# Altium footprint library PCB_Marking_Lib.PcbLib: 70 footprints (part 3 of 5)
Each footprint in its own frame and in the unit in brackets; x right, y up, seen from the top. Pads: shape width x height; smd on the part's side, far side on the other; paste and mask are expansions set on the pad; w line width, h text height; cw(c..) or ccw(c..) is an arc to the next point about the centre after c.
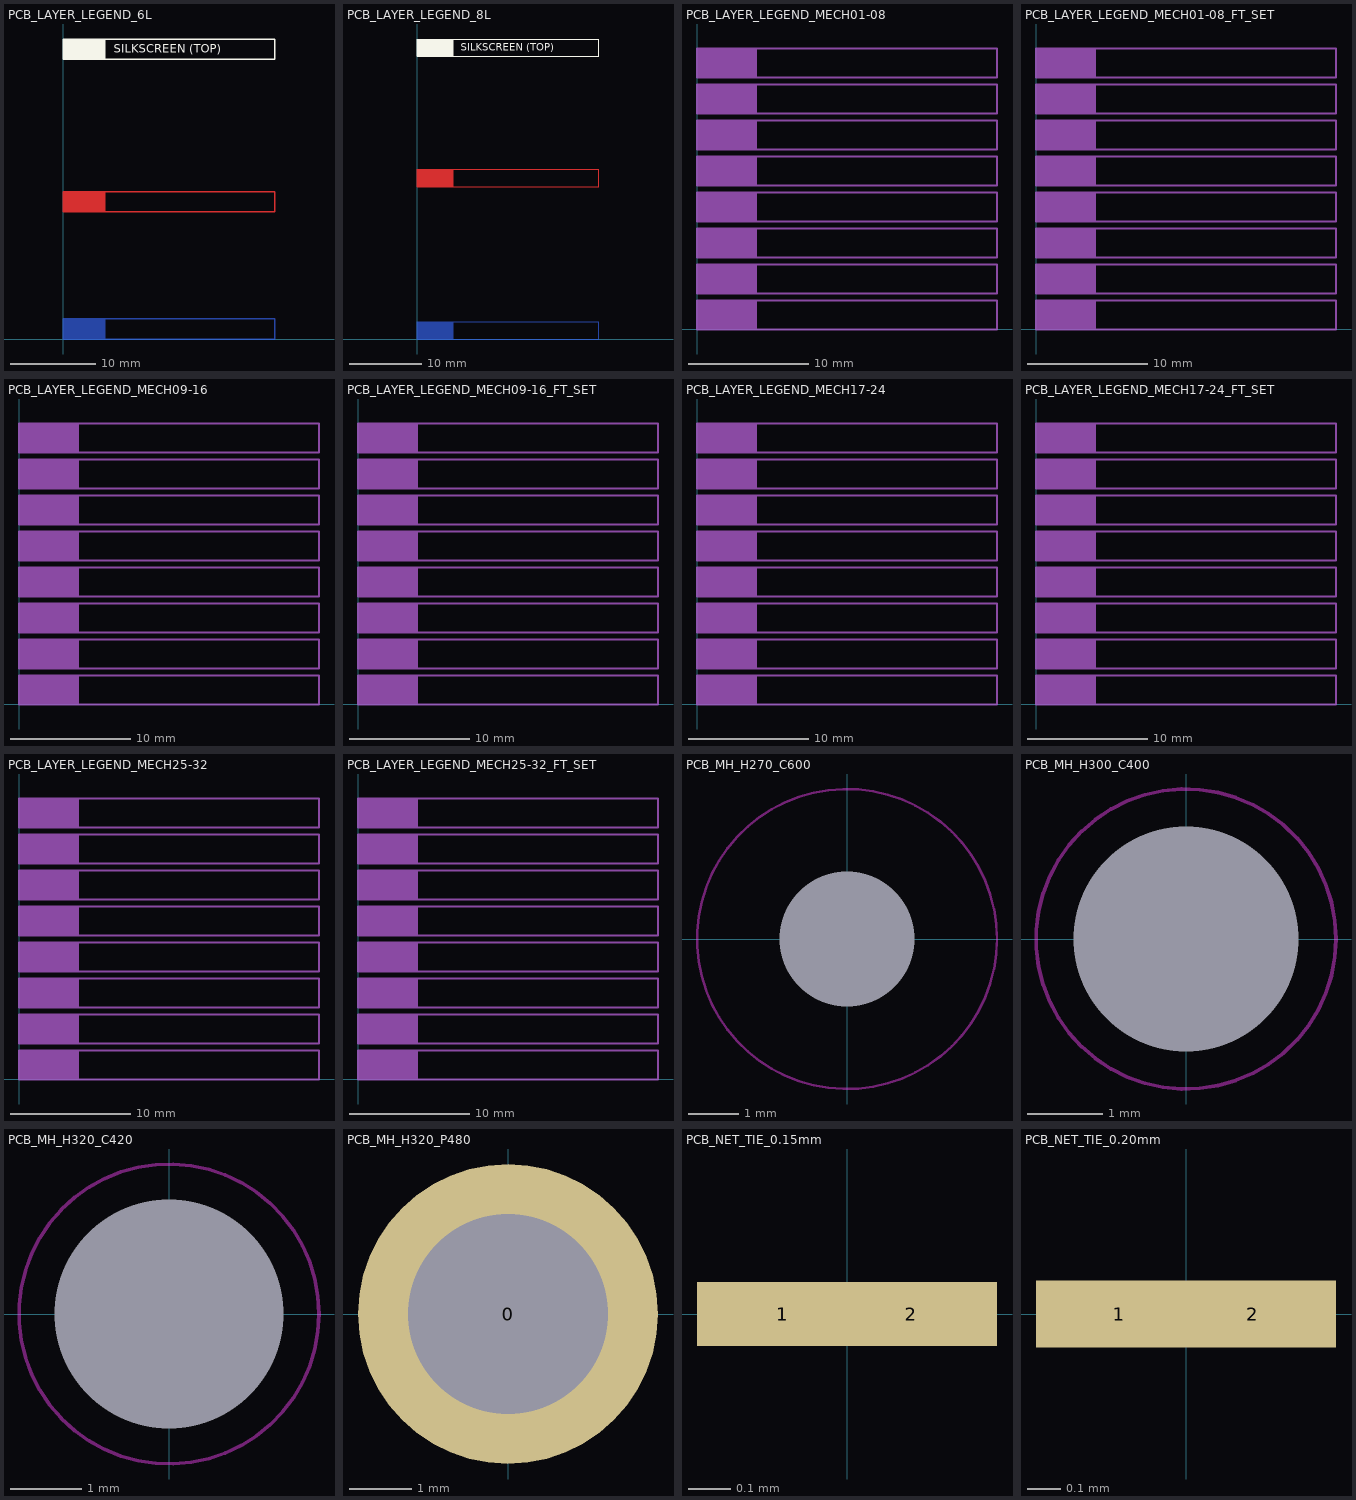
[diagram p2: the footprints below, top view; thin cyan lines are the x and y axes]

## PCB_LAYER_LEGEND_6L [mm]
Top Layer:
  rectangle: 0,15 5,17.4
  lines w0.15: 0,15 25,15 25,17.4 0,17.4 0,15
  text "LAYER L1 (TOP)" at 6,15.8 h1
Mid-Layer 1:
  rectangle: 0,12 5,14.4
  lines w0.15: 0,12 0,14.4 25,14.4 25,12 0,12
  text "LAYER L2" at 6,12.8 h1
Mid-Layer 2:
  rectangle: 0,9 5,11.4
  lines w0.15: 0,9 0,11.4 25,11.4 25,9 0,9
  text "LAYER L3" at 6,9.8 h1
Mid-Layer 3:
  rectangle: 0,6 5,8.4
  lines w0.15: 0,6 25,6 25,8.4 0,8.4 0,6
  text "LAYER L4" at 6,6.8 h1
Mid-Layer 4:
  rectangle: 0,3 5,5.4
  lines w0.15: 0,3 25,3 25,5.4 0,5.4 0,3
  text "LAYER L5" at 6,3.8 h1
Bottom Layer:
  rectangle: 0,0 5,2.4
  lines w0.15: 0,0 0,2.4 25,2.4 25,0 0,0
  text "LAYER L6 (BOT)" at 6,0.8 h1
Top Overlay:
  rectangle: 0,33 5,35.4
  lines w0.15: 0,33 25,33 25,35.4 0,35.4 0,33
  text "SILKSCREEN (TOP)" at 6,33.8 h1
Bottom Overlay:
  rectangle: 0,30 5,32.4
  lines w0.15: 0,30 25,30 25,32.4 0,32.4 0,30
  text "SILKSCREEN (BOT)" at 6,30.8 h1
Top Paste:
  rectangle: 0,21 5,23.4
  lines w0.15: 0,21 25,21 25,23.4 0,23.4 0,21
  text "PASTEMASK (TOP)" at 6,21.8 h1
Bottom Paste:
  rectangle: 0,18 5,20.4
  lines w0.15: 0,18 25,18 25,20.4 0,20.4 0,18
  text "PASTEMASK (BOT)" at 6,18.8 h1
Top Solder:
  rectangle: 0,27 5,29.4
  lines w0.15: 0,27 25,27 25,29.4 0,29.4 0,27
  text "SOLDERMASK (TOP)" at 6,27.8 h1
Bottom Solder:
  rectangle: 0,24 5,26.4
  lines w0.15: 0,24 25,24 25,26.4 0,26.4 0,24
  text "SOLDERMASK (BOT)" at 6,24.8 h1

## PCB_LAYER_LEGEND_8L [mm]
Top Layer:
  rectangle: 0,21 5,23.4
  lines w0.15: 0,21 0,23.4 25,23.4 25,21 0,21
  text "LAYER L1 (TOP)" at 6,21.8 h1
Mid-Layer 1:
  rectangle: 0,18 5,20.4
  lines w0.15: 0,18 25,18 25,20.4 0,20.4 0,18
  text "LAYER L2" at 6,18.8 h1
Mid-Layer 2:
  rectangle: 0,15 5,17.4
  lines w0.15: 0,15 25,15 25,17.4 0,17.4 0,15
  text "LAYER L3" at 6,15.8 h1
Mid-Layer 3:
  rectangle: 0,12 5,14.4
  lines w0.15: 0,12 0,14.4 25,14.4 25,12 0,12
  text "LAYER L4" at 6,12.8 h1
Mid-Layer 4:
  rectangle: 0,9 5,11.4
  lines w0.15: 0,9 0,11.4 25,11.4 25,9 0,9
  text "LAYER L5" at 6,9.8 h1
Mid-Layer 5:
  rectangle: 0,6 5,8.4
  lines w0.15: 0,6 25,6 25,8.4 0,8.4 0,6
  text "LAYER L6" at 6,6.8 h1
Mid-Layer 6:
  rectangle: 0,3 5,5.4
  lines w0.15: 0,3 25,3 25,5.4 0,5.4 0,3
  text "LAYER L7" at 6,3.8 h1
Bottom Layer:
  rectangle: 0,0 5,2.4
  lines w0.15: 0,0 25,0 25,2.4 0,2.4 0,0
  text "LAYER L8 (BOT)" at 6,0.8 h1
Top Overlay:
  rectangle: 0,39 5,41.4
  lines w0.15: 0,39 0,41.4 25,41.4 25,39 0,39
  text "SILKSCREEN (TOP)" at 6,39.8 h1
Bottom Overlay:
  rectangle: 0,36 5,38.4
  lines w0.15: 0,36 0,38.4 25,38.4 25,36 0,36
  text "SILKSCREEN (BOT)" at 6,36.8 h1
Top Paste:
  rectangle: 0,27 5,29.4
  lines w0.15: 0,27 0,29.4 25,29.4 25,27 0,27
  text "PASTEMASK (TOP)" at 6,27.8 h1
Bottom Paste:
  rectangle: 0,24 5,26.4
  lines w0.15: 0,24 0,26.4 25,26.4 25,24 0,24
  text "PASTEMASK (BOT)" at 6,24.8 h1
Top Solder:
  rectangle: 0,33 5,35.4
  lines w0.15: 0,33 0,35.4 25,35.4 25,33 0,33
  text "SOLDERMASK (TOP)" at 6,33.8 h1
Bottom Solder:
  rectangle: 0,30 5,32.4
  lines w0.15: 0,30 0,32.4 25,32.4 25,30 0,30
  text "SOLDERMASK (BOT)" at 6,30.8 h1

## PCB_LAYER_LEGEND_MECH01-08 [mm]
Mechanical 1:
  rectangle: 0,0 5,2.4
  lines w0.15: 0,0 0,2.4 25,2.4 25,0 0,0
  text "(M1)" at 6,0.8 h1
Mechanical 2:
  rectangle: 0,3 5,5.4
  lines w0.15: 0,3 0,5.4 25,5.4 25,3 0,3
  text "(M2)" at 6,3.8 h1
Mechanical 3:
  rectangle: 0,6 5,8.4
  lines w0.15: 0,6 0,8.4 25,8.4 25,6 0,6
  text "(M3)" at 6,6.8 h1
Mechanical 4:
  rectangle: 0,9 5,11.4
  lines w0.15: 0,9 25,9 25,11.4 0,11.4 0,9
  text "(M4)" at 6,9.8 h1
Mechanical 5:
  rectangle: 0,12 5,14.4
  lines w0.15: 0,12 0,14.4 25,14.4 25,12 0,12
  text "(M5)" at 6,12.8 h1
Mechanical 6:
  rectangle: 0,15 5,17.4
  lines w0.15: 0,15 0,17.4 25,17.4 25,15 0,15
  text "(M6)" at 6,15.8 h1
Mechanical 7:
  rectangle: 0,18 5,20.4
  lines w0.15: 0,18 25,18 25,20.4 0,20.4 0,18
  text "(M7)" at 6,18.8 h1
Mechanical 8:
  rectangle: 0,21 5,23.4
  lines w0.15: 0,21 25,21 25,23.4 0,23.4 0,21
  text "(M8)" at 6,21.8 h1

## PCB_LAYER_LEGEND_MECH01-08_FT_SET [mm]
Mechanical 1:
  rectangle: 0,0 5,2.4
  lines w0.15: 0,0 25,0 25,2.4 0,2.4 0,0
  text "(M1) Board Outline" at 6,0.8 h1
Mechanical 2:
  rectangle: 0,3 5,5.4
  lines w0.15: 0,3 25,3 25,5.4 0,5.4 0,3
  text "(M2) Panel Outline" at 6,3.8 h1
Mechanical 3:
  rectangle: 0,6 5,8.4
  lines w0.15: 0,6 25,6 25,8.4 0,8.4 0,6
  text "(M3) V-Cut" at 6,6.8 h1
Mechanical 4:
  rectangle: 0,9 5,11.4
  lines w0.15: 0,9 0,11.4 25,11.4 25,9 0,9
  text "(M4) Milling Non-Plated" at 6,9.8 h1
Mechanical 5:
  rectangle: 0,12 5,14.4
  lines w0.15: 0,12 25,12 25,14.4 0,14.4 0,12
  text "(M5) Milling Plated" at 6,12.8 h1
Mechanical 6:
  rectangle: 0,15 5,17.4
  lines w0.15: 0,15 25,15 25,17.4 0,17.4 0,15
  text "(M6) Slots" at 6,15.8 h1
Mechanical 7:
  rectangle: 0,18 5,20.4
  lines w0.15: 0,18 0,20.4 25,20.4 25,18 0,18
  text "(M7) Peelable Mask" at 6,18.8 h1
Mechanical 8:
  rectangle: 0,21 5,23.4
  lines w0.15: 0,21 0,23.4 25,23.4 25,21 0,21
  text "(M8) Carbon Ink" at 6,21.8 h1

## PCB_LAYER_LEGEND_MECH09-16 [mm]
Mechanical 9:
  rectangle: 0,0 5,2.4
  lines w0.15: 0,0 25,0 25,2.4 0,2.4 0,0
  text "(M9)" at 6,0.8 h1
Mechanical 10:
  rectangle: 0,3 5,5.4
  lines w0.15: 0,3 25,3 25,5.4 0,5.4 0,3
  text "(M10)" at 6,3.8 h1
Mechanical 11:
  rectangle: 0,6 5,8.4
  lines w0.15: 0,6 25,6 25,8.4 0,8.4 0,6
  text "(M11)" at 6,6.8 h1
Mechanical 12:
  rectangle: 0,9 5,11.4
  lines w0.15: 0,9 0,11.4 25,11.4 25,9 0,9
  text "(M12)" at 6,9.8 h1
Mechanical 13:
  rectangle: 0,12 5,14.4
  text "(M13)" at 6,12.8 h1
Mechanical 14:
  rectangle: 0,15 5,17.4
  lines w0.15: 0,15 25,15 25,17.4 0,17.4 0,15
  text "(M14)" at 6,15.8 h1
Mechanical 15:
  rectangle: 0,18 5,20.4
  text "(M15)" at 6,18.8 h1
Mechanical 16:
  rectangle: 0,21 5,23.4
  lines w0.15: 0,21 0,23.4 25,23.4 25,21 0,21
  text "(M16)" at 6,21.8 h1
Mechanical 21:
  lines w0.15: 0,12 25,12 25,14.4 0,14.4 0,12
Mechanical 23:
  lines w0.15: 0,18 0,20.4 25,20.4 25,18 0,18

## PCB_LAYER_LEGEND_MECH09-16_FT_SET [mm]
Mechanical 9:
  rectangle: 0,0 5,2.4
  lines w0.15: 0,0 0,2.4 25,2.4 25,0 0,0
  text "(M9) Silkscreen Additional" at 6,0.8 h1
Mechanical 10:
  rectangle: 0,3 5,5.4
  lines w0.15: 0,3 0,5.4 25,5.4 25,3 0,3
  text "(M10) Dimensions" at 6,3.8 h1
Mechanical 11:
  rectangle: 0,6 5,8.4
  lines w0.15: 0,6 0,8.4 25,8.4 25,6 0,6
  text "(M11) PCB Specification" at 6,6.8 h1
Mechanical 12:
  rectangle: 0,9 5,11.4
  lines w0.15: 0,9 25,9 25,11.4 0,11.4 0,9
  text "(M12) Info Assembly TOP" at 6,9.8 h1
Mechanical 13:
  rectangle: 0,12 5,14.4
  text "(M13) Info Assembly BOT" at 6,12.8 h1
Mechanical 14:
  rectangle: 0,15 5,17.4
  lines w0.15: 0,15 0,17.4 25,17.4 25,15 0,15
  text "(M14) CAD Import" at 6,15.8 h1
Mechanical 15:
  rectangle: 0,18 5,20.4
  text "(M15) Reserved" at 6,18.8 h1
Mechanical 16:
  rectangle: 0,21 5,23.4
  lines w0.15: 0,21 25,21 25,23.4 0,23.4 0,21
  text "(M16) Sheet Template" at 6,21.8 h1
Mechanical 21:
  lines w0.15: 0,12 0,14.4 25,14.4 25,12 0,12
Mechanical 23:
  lines w0.15: 0,18 25,18 25,20.4 0,20.4 0,18

## PCB_LAYER_LEGEND_MECH17-24 [mm]
Mechanical 17:
  rectangle: 0,0 5,2.4
  lines w0.15: 0,0 25,0 25,2.4 0,2.4 0,0
  text "(M17)" at 6,0.8 h1
Mechanical 18:
  rectangle: 0,3 5,5.4
  lines w0.15: 0,3 25,3 25,5.4 0,5.4 0,3
  text "(M18)" at 6,3.8 h1
Mechanical 19:
  rectangle: 0,6 5,8.4
  lines w0.15: 0,6 25,6 25,8.4 0,8.4 0,6
  text "(M19)" at 6,6.8 h1
Mechanical 20:
  rectangle: 0,9 5,11.4
  lines w0.15: 0,9 0,11.4 25,11.4 25,9 0,9
  text "(M20)" at 6,9.8 h1
Mechanical 21:
  rectangle: 0,12 5,14.4
  lines w0.15: 0,12 25,12 25,14.4 0,14.4 0,12
  text "(M21)" at 6,12.8 h1
Mechanical 22:
  rectangle: 0,15 5,17.4
  lines w0.15: 0,15 25,15 25,17.4 0,17.4 0,15
  text "(M22)" at 6,15.8 h1
Mechanical 23:
  rectangle: 0,18 5,20.4
  lines w0.15: 0,18 0,20.4 25,20.4 25,18 0,18
  text "(M23)" at 6,18.8 h1
Mechanical 24:
  rectangle: 0,21 5,23.4
  lines w0.15: 0,21 0,23.4 25,23.4 25,21 0,21
  text "(M24)" at 6,21.8 h1

## PCB_LAYER_LEGEND_MECH17-24_FT_SET [mm]
Mechanical 17:
  rectangle: 0,0 5,2.4
  lines w0.15: 0,0 0,2.4 25,2.4 25,0 0,0
  text "(M17) 3D Body TOP" at 6,0.8 h1
Mechanical 18:
  rectangle: 0,3 5,5.4
  lines w0.15: 0,3 0,5.4 25,5.4 25,3 0,3
  text "(M18) 3D Body BOT" at 6,3.8 h1
Mechanical 19:
  rectangle: 0,6 5,8.4
  lines w0.15: 0,6 0,8.4 25,8.4 25,6 0,6
  text "(M19) Assembly SMD TOP" at 6,6.8 h1
Mechanical 20:
  rectangle: 0,9 5,11.4
  lines w0.15: 0,9 25,9 25,11.4 0,11.4 0,9
  text "(M20) Assembly SMD BOT" at 6,9.8 h1
Mechanical 21:
  rectangle: 0,12 5,14.4
  lines w0.15: 0,12 0,14.4 25,14.4 25,12 0,12
  text "(M21) Assembly THT TOP" at 6,12.8 h1
Mechanical 22:
  rectangle: 0,15 5,17.4
  lines w0.15: 0,15 0,17.4 25,17.4 25,15 0,15
  text "(M22) Assembly THT BOT" at 6,15.8 h1
Mechanical 23:
  rectangle: 0,18 5,20.4
  lines w0.15: 0,18 25,18 25,20.4 0,20.4 0,18
  text "(M23) Courtyard TOP" at 6,18.8 h1
Mechanical 24:
  rectangle: 0,21 5,23.4
  lines w0.15: 0,21 25,21 25,23.4 0,23.4 0,21
  text "(M24) Courtyard BOT" at 6,21.8 h1

## PCB_LAYER_LEGEND_MECH25-32 [mm]
Mechanical 25:
  rectangle: 0,0 5,2.4
  lines w0.15: 0,0 0,2.4 25,2.4 25,0 0,0
  text "(M25)" at 6,0.8 h1
Mechanical 26:
  rectangle: 0,3 5,5.4
  lines w0.15: 0,3 0,5.4 25,5.4 25,3 0,3
  text "(M26)" at 6,3.8 h1
Mechanical 27:
  rectangle: 0,6 5,8.4
  lines w0.15: 0,6 0,8.4 25,8.4 25,6 0,6
  text "(M27)" at 6,6.8 h1
Mechanical 28:
  rectangle: 0,9 5,11.4
  lines w0.15: 0,9 25,9 25,11.4 0,11.4 0,9
  text "(M28)" at 6,9.8 h1
Mechanical 29:
  rectangle: 0,12 5,14.4
  lines w0.15: 0,12 0,14.4 25,14.4 25,12 0,12
  text "(M29)" at 6,12.8 h1
Mechanical 30:
  rectangle: 0,15 5,17.4
  lines w0.15: 0,15 0,17.4 25,17.4 25,15 0,15
  text "(M30)" at 6,15.8 h1
Mechanical 31:
  rectangle: 0,18 5,20.4
  lines w0.15: 0,18 25,18 25,20.4 0,20.4 0,18
  text "(M31)" at 6,18.8 h1
Mechanical 32:
  rectangle: 0,21 5,23.4
  lines w0.15: 0,21 25,21 25,23.4 0,23.4 0,21
  text "(M32)" at 6,21.8 h1

## PCB_LAYER_LEGEND_MECH25-32_FT_SET [mm]
Mechanical 25:
  rectangle: 0,0 5,2.4
  lines w0.15: 0,0 0,2.4 25,2.4 25,0 0,0
  text "(M25) THT Keepout TOP" at 6,0.8 h1
Mechanical 26:
  rectangle: 0,3 5,5.4
  lines w0.15: 0,3 0,5.4 25,5.4 25,3 0,3
  text "(M26) THT Keepout BOT" at 6,3.8 h1
Mechanical 27:
  rectangle: 0,6 5,8.4
  lines w0.15: 0,6 0,8.4 25,8.4 25,6 0,6
  text "(M27) Testpoint TOP" at 6,6.8 h1
Mechanical 28:
  rectangle: 0,9 5,11.4
  lines w0.15: 0,9 25,9 25,11.4 0,11.4 0,9
  text "(M28) Testpoint BOT" at 6,9.8 h1
Mechanical 29:
  rectangle: 0,12 5,14.4
  lines w0.15: 0,12 0,14.4 25,14.4 25,12 0,12
  text "(M29) Metal Area TOP" at 6,12.8 h1
Mechanical 30:
  rectangle: 0,15 5,17.4
  lines w0.15: 0,15 0,17.4 25,17.4 25,15 0,15
  text "(M30) Metal Area BOT" at 6,15.8 h1
Mechanical 31:
  rectangle: 0,18 5,20.4
  lines w0.15: 0,18 25,18 25,20.4 0,20.4 0,18
  text "(M31) Glue Dot" at 6,18.8 h1
Mechanical 32:
  rectangle: 0,21 5,23.4
  lines w0.15: 0,21 25,21 25,23.4 0,23.4 0,21
  text "(M32) Footprint Info" at 6,21.8 h1

## PCB_MH_H270_C600 [mm]
pads (1):
  round 0 hole 2.7 unplated mask+3: 0(0,0)
Keep-Out Layer:
  circle w0.05: c0,0 r3

## PCB_MH_H300_C400 [mm]
pads (1):
  round 0 hole 3 unplated mask+0.5: 0(0,0)
Keep-Out Layer:
  circle w0.05: c0,0 r2

## PCB_MH_H320_C420 [mm]
pads (1):
  round 0 hole 3.2 unplated mask+0.5: 0(0,0)
Keep-Out Layer:
  circle w0.05: c0,0 r2.1

## PCB_MH_H320_P480 [mm]
pads (1):
  round 4.8 hole 3.2: 0(0,0)

## PCB_NET_TIE_0.15mm [mm]
pads (2):
  rect 0.4x0.15 smd paste-10: 1(-0.15,0) 2(0.15,0)

## PCB_NET_TIE_0.20mm [mm]
pads (2):
  rect 0.5x0.2 smd paste-10: 1(-0.2,0) 2(0.2,0)